# Altium footprint library SDTR-HX-20240126-V2.00.PcbLib: 53 footprints (part 3 of 4)
Each footprint in its own frame and in the unit in brackets; x right, y up, seen from the top. Pads: shape width x height; smd on the part's side, far side on the other; paste and mask are expansions set on the pad; w line width, h text height; cw(c..) or ccw(c..) is an arc to the next point about the centre after c.
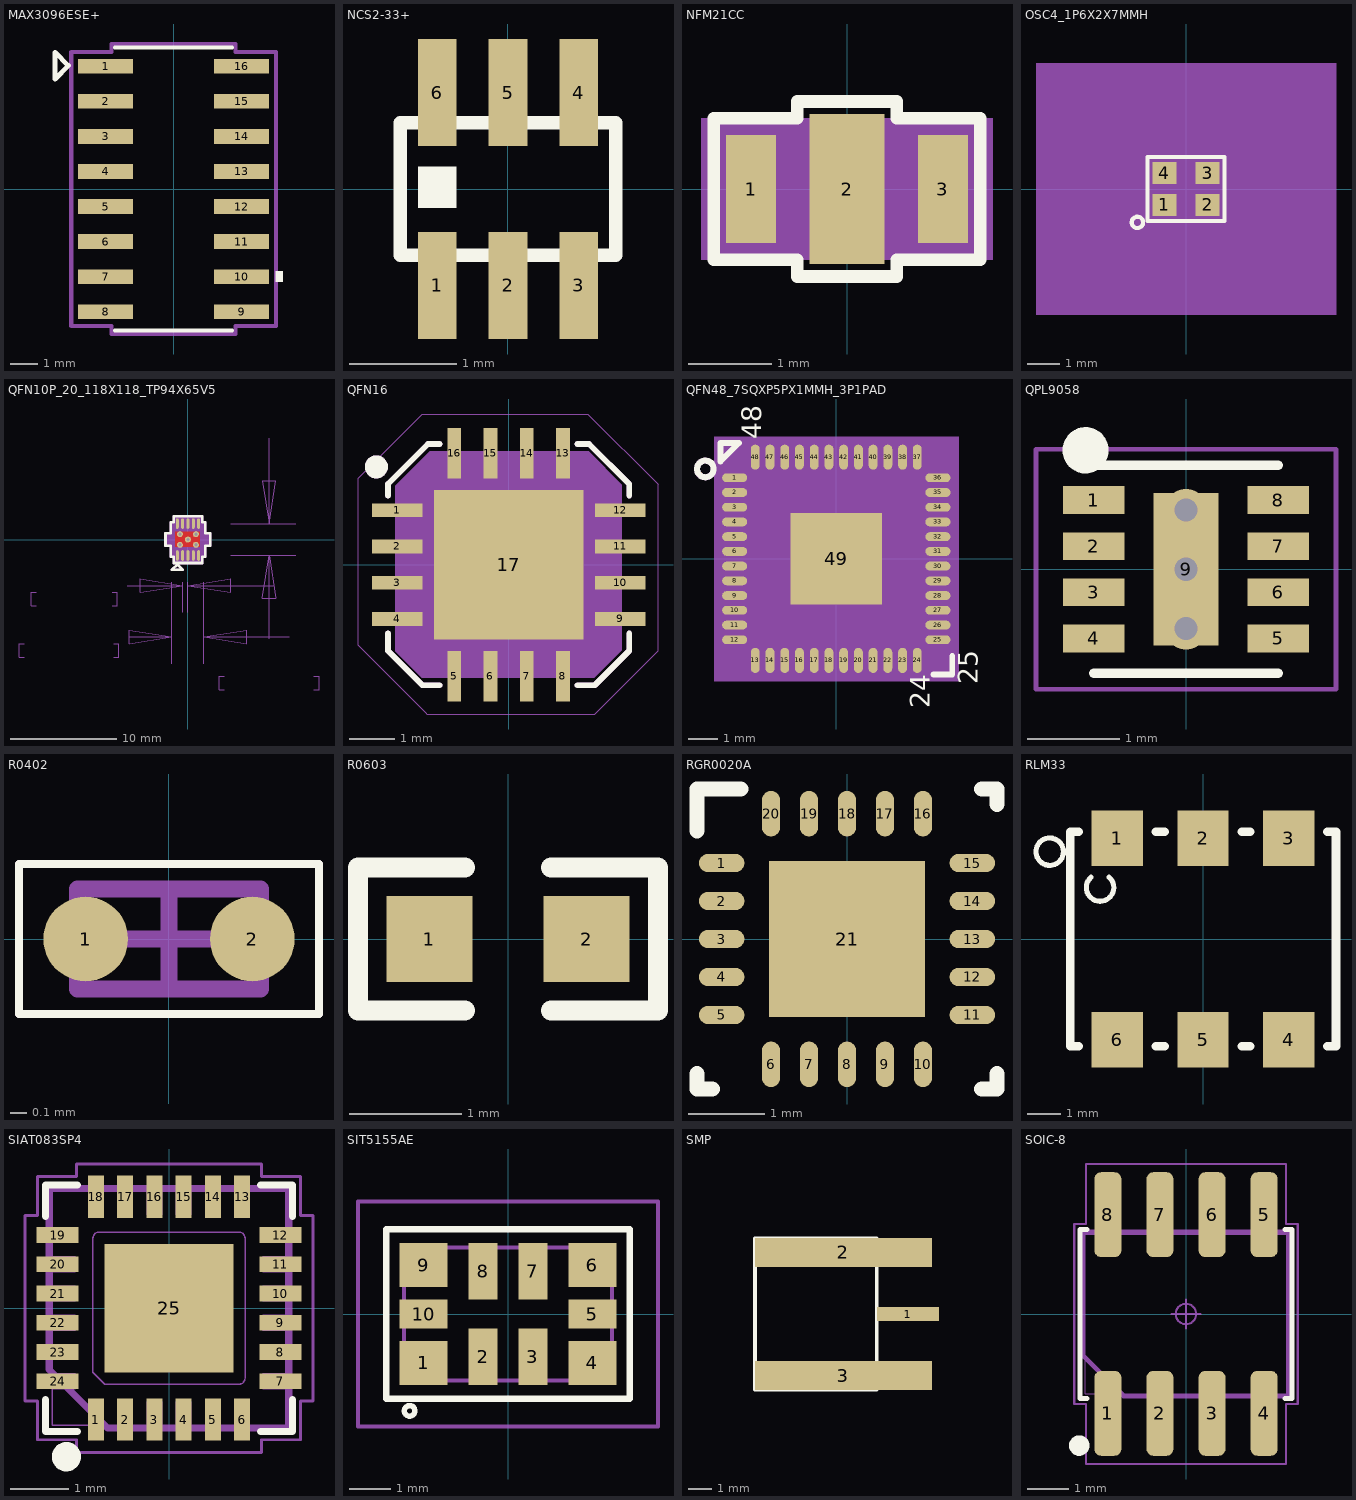
[diagram p2: the footprints below, top view; thin cyan lines are the x and y axes]

## MAX3096ESE+ [mil]
pads (16):
  rect 78x21 smd: 1(-97,175) 2(-97,125) 3(-97,75) 4(-97,25) 5(-97,-25) 6(-97,-75) 7(-97,-125) 8(-97,-175) 9(97,-175) 10(97,-125) 11(97,-75) 12(97,-25) 13(97,25) 14(97,75) 15(97,125) 16(97,175)
Top Overlay:
  region: 146,-117.5 156,-117.5 156,-132.5 146,-132.5
  lines w6: -83.5,-202 83.5,-202 ; -83.5,202 83.5,202
  lines w7: -169,157 -169,195 -150,176 -169,157
Mechanical 15:
  lines w6: -146,-195.5 -146,195.5 -88.5,195.5 -88.5,207 88.5,207 88.5,195.5 146,195.5 146,-195.5 88.5,-195.5 88.5,-207 -88.5,-207 -88.5,-195.5 -146,-195.5

## NCS2-33+ [mm]
pads (6):
  rect 0.36x1 smd: 1(-0.66,-0.9) 2(0,-0.9) 3(0.66,-0.9) 4(0.66,0.9) 5(0,0.9) 6(-0.66,0.9)
Top Overlay:
  rectangle: -0.84,-0.177 -0.48,0.21
  lines w0.127: -1.005,-0.62 1.005,-0.62 1.005,0.62 -1.005,0.62 -1.005,-0.62

## NFM21CC [mm] "NFM21CC"
pads (3):
  rect 0.6x1.3 smd: 1(-1.15,0) 3(1.15,0)
  rect 0.9x1.8 smd: 2(0,0)
Top Overlay:
  lines w0.15: -1.6,-0.85 -0.6,-0.85 -0.6,-1.05 0.6,-1.05 0.6,-0.85 1.6,-0.85 1.6,0.85 0.6,0.85 0.6,1.05 -0.6,1.05 -0.6,0.85 -1.6,0.85 -1.6,-0.85
Mechanical 14:
  text "2" at 0,-0.203 h0.25
  text "1" at -1.15,-0.203 h0.25
  text "3" at 1.15,-0.203 h0.25
Mechanical 16:
  region: -1.75,0.85 -1.75,-0.85 1.75,-0.85 1.75,0.85
Mechanical 20:
  text "NFM21PC225B0J3" at -0.5,1.53 h0.25
3D body: height 3.81, standoff 0, extent -1.75,-0.85 1.75,0.85

## OSC4_1P6X2X7MMH [mm] "OSC4_1P6X2X7MMH"
pads (4):
  rect 0.75x0.7 smd: 1(-0.675,-0.5) 2(0.675,-0.5) 3(0.675,0.5) 4(-0.675,0.5)
Top Overlay:
  circle w0.127: c-1.522,-1.046 r0.178
  lines w0.127: -1.2,-1 1.2,-1 1.2,1 -1.2,1 -1.2,-1
Top 3D Body:
  region: -1.3,-1.1 1.3,-1.1 1.3,1.1 -1.3,1.1
Mechanical 11:
  circle w0.127: c-1.7,-1.3 r0.359
  lines w0.127: -0.11,-1 0.11,-1 ; -0.11,1 0.11,1
Top Assembly:
  circle w0.127: c-1.7,-1.3 r0.316
  lines w0.127: -1,-0.8 -1,0.8 1,0.8 1,-0.8 -1,-0.8
  text "*" at -0.483,-1.947 h1.27
  text "*" at -0.483,-1.947 h1.27
  text "24MHZ" at -0.483,-1.947 h1.27
Mechanical50:
  text "2" at 0.675,-0.246 h0.64
  text "4" at -0.675,0.754 h0.64
  text "1" at -0.675,-0.246 h0.64
  text "3" at 0.675,0.754 h0.64
Mechanical56:
  dashed: -4.699,-3.937 4.699,-3.937 4.699,3.937 -4.699,3.937
3D body: height 3.81, standoff 0, extent -1.3,-1.1 1.3,1.1

## QFN10P_20_118X118_TP94X65V5 [mil] "QFN10P_20_118X118_TP94X65V5"
pads (16):
  oval 11x39 smd: 1(-39.37,-59.06) 2(-19.69,-59.06) 3(0,-59.06) 4(19.69,-59.06) 5(39.37,-59.06) 6(39.37,59.06) 7(19.69,59.06) 8(0,59.06) 9(-19.69,59.06) 10(-39.37,59.06)
  oct 1x1 smd: 11(0,0)
  round 22 hole 12: 12(-29.53,-19.69) 13(29.53,-19.69) 14(-29.53,19.69) 15(29.53,19.69) 16(0,0)
Top Layer:
  rectangle: -48.12,-28.27 45.41,29.21
Top Overlay:
  lines w10: -83,-23 -64.06,-23 -64.06,-64.06 -52.87,-64.06 -52.87,-86.56 52.87,-86.56 52.87,-64.06 64.06,-64.06 64.06,-23 83,-23 83,23 64.06,23 64.06,64.06 52.87,64.06 52.87,86.56 -52.87,86.56 -52.87,64.06 -64.06,64.06 -64.06,23 -83,23 -83,-23 ; -59.37,-111.56 -19.37,-111.56 -39.37,-91.56 -59.37,-111.56
Mechanical 5:
  lines w10: -83,-23 -83,23 -64.06,23 -64.06,64.06 -52.87,64.06 -52.87,86.56 52.87,86.56 52.87,64.06 64.06,64.06 64.06,23 83,23 83,-23 64.06,-23 64.06,-64.06 52.87,-64.06 52.87,-86.56 -52.87,-86.56 -52.87,-64.06 -64.06,-64.06 -64.06,-23 -83,-23 ; -59.37,-111.56 -39.37,-91.56 -19.37,-111.56 -59.37,-111.56
Mechanical 13:
  lines w1: -605.5,-435 -624.5,-435 -624.5,-385 -605.5,-385 ; -560,-245 -579,-245 -579,-195 -560,-195 ; -280,-245 -261,-245 -261,-195 -280,-195 ; -274.5,-435 -255.5,-435 -255.5,-385 -274.5,-385 ; -223.5,-170 -19.69,-170 ; -218,-360 -59.06,-360 ; -59.06,-458.43 -59.06,-157.48 ; -19.69,-268.43 -19.69,-157.48 ; 0,-268.43 0,-157.48 ; 59.06,-458.43 59.06,-157.48 ; 134.5,-555 115.5,-555 115.5,-505 134.5,-505 ; 157.48,-59.06 398.43,-59.06 ; 157.48,59.06 398.43,59.06 ; 300,-367.5 300,-59.06 ; 300,374.02 300,59.06 ; 314.96,-170 0,-170 ; 374.02,-360 59.06,-360 ; 465.5,-555 484.5,-555 484.5,-505 465.5,-505 ; -59.06,-360 -216.54,-335.39 -216.54,-384.61 -59.06,-360 ; -19.69,-170 -177.17,-145.39 -177.17,-194.61 -19.69,-170 ; 0,-170 157.48,-194.61 157.48,-145.39 0,-170 ; 59.06,-360 216.54,-384.61 216.54,-335.39 59.06,-360 ; 300,-59.06 275.39,-216.54 324.61,-216.54 300,-59.06 ; 300,59.06 324.61,216.54 275.39,216.54 300,59.06
  text "0.5" at -490,-145 h36
  text "19.69" at -541,-245 h36
  text "3" at -459,-335 h36
  text "118.11" at -586.5,-435 h36
  text "3" at 281,-455 h36
  text "118.11" at 153.5,-555 h36
Mechanical 16:
  region: -59.06,-59.06 59.06,-59.06 59.06,59.06 -59.06,59.06
  pour cut-out: 52.87,86.56 52.87,64.06 64.06,64.06 64.06,23 83,23 83,-23 64.06,-23 64.06,-64.06 52.87,-64.06 52.87,-86.56 -52.87,-86.56 -52.87,-64.06 -64.06,-64.06 -64.06,-23 -83,-23 -83,23 -64.06,23 -64.06,64.06 -52.87,64.06 -52.87,86.56
  lines w1: -59.06,-59.06 59.06,-59.06 59.06,59.06 -59.06,59.06 -59.06,-59.06
Mechanical 17:
  text ".Designator" at 6,1.67 h5
3D body: height 150, standoff 0, extent -59.06,-59.06 59.06,59.06

## QFN16 [mil] "QFN16"
pads (17):
  rect 44x12 smd: 1(-97,47.24) 2(-97,15.75) 3(-97,-15.75) 4(-97,-47.24) 9(97,-47.24) 10(97,-15.75) 11(97,15.75) 12(97,47.24)
  rect 12x44 smd: 5(-47.24,-97) 6(-15.75,-97) 7(15.75,-97) 8(47.24,-97) 13(47.24,97) 14(15.75,97) 15(-15.75,97) 16(-47.24,97)
  rect 130x130 smd: 17(0,0)
Top Overlay:
  circle w10: c-115,85 r5
  lines w5: -105,-60 -105,-75 -75,-105 -60,-105 ; -105,60 -105,70 -70,105 -60,105 ; 60,-105 75,-105 105,-75 105,-60 ; 60,105 70,105 105,70 105,60
Mechanical 5:
  circle w10: c-115,85 r5
  lines w5: -105,-60 -105,-75 -75,-105 -60,-105 ; -105,60 -105,70 -70,105 -60,105 ; 60,-105 75,-105 105,-75 105,-60 ; 60,105 70,105 105,70 105,60
Mechanical 16:
  region: 98.43,-74.58 75,-98 74.58,-98.43 -75.58,-98.43 -76,-98 -98.43,-75.58 -98.43,68.58 -98,69 -68.58,98.43 69.58,98.43 70,98 98.43,69.58
  lines w1: -131,-70 -71.49,-129.48 -71,-130 75,-130 130,-75 130,70 69,131 -65,131 -75,131 -131,75 -131,-70
Mechanical 17:
  text ".Designator" at 6,-1.67 h5
  text "MAX8556ETE+" at 13,-100 h20
3D body: height 150, standoff 0, extent -98.43,-98.43 98.43,98.43

## QFN48_7SQXP5PX1MMH_3P1PAD [mm] "QFN48_7SQXP5PX1MMH_3P1PAD"
pads (49):
  oval 0.85x0.3 smd: 1(-3.45,2.75) 2(-3.45,2.25) 3(-3.45,1.75) 4(-3.45,1.25) 5(-3.45,0.75) 6(-3.45,0.25) 7(-3.45,-0.25) 8(-3.45,-0.75) 9(-3.45,-1.25) 10(-3.45,-1.75) 11(-3.45,-2.25) 12(-3.45,-2.75) 25(3.45,-2.75) 26(3.45,-2.25) 27(3.45,-1.75) 28(3.45,-1.25) 29(3.45,-0.75) 30(3.45,-0.25) 31(3.45,0.25) 32(3.45,0.75) 33(3.45,1.25) 34(3.45,1.75) 35(3.45,2.25) 36(3.45,2.75)
  oval 0.3x0.85 smd: 13(-2.75,-3.45) 14(-2.25,-3.45) 15(-1.75,-3.45) 16(-1.25,-3.45) 17(-0.75,-3.45) 18(-0.25,-3.45) 19(0.25,-3.45) 20(0.75,-3.45) 21(1.25,-3.45) 22(1.75,-3.45) 23(2.25,-3.45) 24(2.75,-3.45) 37(2.75,3.45) 38(2.25,3.45) 39(1.75,3.45) 40(1.25,3.45) 41(0.75,3.45) 42(0.25,3.45) 43(-0.25,3.45) 44(-0.75,3.45) 45(-1.25,3.45) 46(-1.75,3.45) 47(-2.25,3.45) 48(-2.75,3.45)
  rect 3.1x3.1 smd: 49(0,0)
Top Overlay:
  circle w0.203: c-4.445,3.048 r0.283
  lines w0.203: 3.302,-3.937 3.937,-3.937 3.937,-3.302 ; -3.937,3.302 -3.302,3.937 -3.937,3.937 -3.937,3.302
  text "25" at 4.795,-4.264 h0.66
  text "24" at 3.175,-5.08 h0.66
  text "48" at -2.54,4.064 h0.66
Top Paste:
  dashed: -1.4,-0.129 -0.179,-0.129 -0.179,-1.4 -1.4,-1.4
  dashed: 1.4,-0.129 0.126,-0.129 0.126,-1.4 1.4,-1.4
  dashed: -1.4,0.176 -0.179,0.176 -0.179,1.4 -1.4,1.4
  dashed: 0.126,0.176 1.4,0.176 1.4,1.4 0.126,1.4
Top 3D Body:
  region: 4.15,-4.15 -4.15,-4.15 -4.15,4.15 4.15,4.15
Mechanical 11:
  lines w0.203: 3.302,-3.937 3.937,-3.937 3.937,-3.302 ; -4.728,3.048 cw(c-4.445,3.048) -4.445,3.331 cw(c-4.445,3.048) -4.162,3.048 cw(c-4.445,3.048) -4.445,2.765 cw(c-4.445,3.048) -4.728,3.048 ; -3.937,3.302 -3.937,3.937 -3.302,3.937 -3.937,3.302
Top Assembly:
  circle w0.203: c-2.794,2.667 r0.283
  lines w0.203: -3.556,-3.556 -3.556,3.556 3.556,3.556 3.556,-3.556 -3.556,-3.556
  text "*" at -0.483,-0.423 h1.27
  text "*" at -0.483,-0.423 h1.27
  text "88E1318_1.8V IO" at -0.483,-0.423 h1.27
Mechanical50:
  text "3" at -3.65,1.547 h0.39
  text "8" at -3.65,-0.954 h0.39
  text "16" at -0.931,-4.307 h0.39
  text "21" at 1.569,-4.307 h0.39
  text "49" at 0,-0.315 h0.39
  text "36" at 3.65,2.416 h0.39
  text "35" at 3.65,1.916 h0.39
  text "12" at -3.65,-3.111 h0.39
  text "11" at -3.65,-2.611 h0.39
  text "40" at 0.869,3.047 h0.39
  text "27" at 3.65,-2.084 h0.39
  text "26" at 3.65,-2.584 h0.39
  text "31" at 3.65,-0.084 h0.39
  text "30" at 3.65,-0.584 h0.39
  text "15" at -1.431,-4.307 h0.39
  text "22" at 2.069,-4.307 h0.39
  text "33" at 3.65,0.916 h0.39
  text "32" at 3.65,0.416 h0.39
  text "6" at -3.65,0.046 h0.39
  text "34" at 3.65,1.416 h0.39
  text "48" at -3.131,3.047 h0.39
  text "1" at -3.65,2.547 h0.39
  text "45" at -1.631,3.047 h0.39
  text "44" at -1.131,3.047 h0.39
  text "47" at -2.631,3.047 h0.39
  text "42" at -0.131,3.047 h0.39
  text "39" at 1.369,3.047 h0.39
  text "41" at 0.369,3.047 h0.39
  text "2" at -3.65,2.046 h0.39
  text "38" at 1.869,3.047 h0.39
  text "5" at -3.65,0.547 h0.39
  text "4" at -3.65,1.046 h0.39
  text "14" at -1.931,-4.307 h0.39
  text "23" at 2.569,-4.307 h0.39
  text "9" at -3.65,-1.453 h0.39
  text "17" at -0.431,-4.307 h0.39
  text "10" at -3.65,-2.111 h0.39
  text "18" at 0.069,-4.307 h0.39
  text "24" at 3.069,-4.307 h0.39
  text "19" at 0.569,-4.307 h0.39
  text "20" at 1.069,-4.307 h0.39
  text "13" at -2.431,-4.307 h0.39
  text "25" at 3.65,-3.084 h0.39
  text "46" at -2.131,3.047 h0.39
  text "7" at -3.65,-0.453 h0.39
  text "43" at -0.631,3.047 h0.39
  text "37" at 2.369,3.047 h0.39
  text "28" at 3.65,-1.584 h0.39
  text "29" at 3.65,-1.084 h0.39
Mechanical56:
  dashed: -4.15,-4.15 4.15,-4.15 4.15,4.15 -4.15,4.15
3D body: height 3.81, standoff 0, extent -4.15,-4.15 4.15,4.15

## QPL9058 [mm]
pads (9):
  rect 0.67x0.3 smd: 1(-1,0.75) 2(-1,0.25) 3(-1,-0.25) 4(-1,-0.75) 5(1,-0.75) 6(1,-0.25) 7(1,0.25) 8(1,0.75)
  rect 0.7x1.65 smd: 9(0,0)
via 0,0.64 diameter 0.457 hole 0.25
via 0,0 diameter 0.457 hole 0.25
via 0,-0.64 diameter 0.457 hole 0.25
Top Overlay:
  circle w0.25: c-1.088,1.289 r0.125
  lines w0.1: -1,-1.127 1,-1.127 ; -1,1.127 1,1.127
Mechanical 15:
  lines w0.05: -1.625,-1.3 -1.625,1.3 1.625,1.3 1.625,-1.3 -1.625,-1.3
3D body "QPL9058TR7.stp": height 0.9, standoff 0, extent -1.05,-1 1.05,1

## R0402 [mil]
height 11.81
pads (2):
  round 20 smd: 1(-19.68,0) 2(19.68,0)
Top Overlay:
  lines w1.97: -35.43,-17.72 -35.43,17.72 35.43,17.72 35.43,-17.72 -35.43,-17.72
Mechanical 13:
  lines w3.94: -21.65,-11.81 21.65,-11.81 21.65,11.81 -21.65,11.81 -21.65,-11.81
Mechanical 15:
  lines w1.97: -35.43,-17.72 -35.43,17.72 35.43,17.72 35.43,-17.72 -35.43,-17.72
  lines w3.94: -9.84,0 9.84,0 ; 0,-9.84 0,9.84
3D body "R0402.STEP": height 13.78, standoff 0, extent -19.68,-9.84 19.68,9.84

## R0603 [mil]
pads (2):
  rect 30x30 smd: 1(-27.5,0) 2(27.5,0)
Top Overlay:
  lines w7: -15,-25 -52.5,-25 -52.5,25 -15,25 ; 15,-25 52.5,-25 52.5,25 15,25

## RGR0020A [mm]
pads (21):
  oval 0.6x0.24 smd: 1(-1.65,1) 2(-1.65,0.5) 3(-1.65,0) 4(-1.65,-0.5) 5(-1.65,-1) 11(1.65,-1) 12(1.65,-0.5) 13(1.65,0) 14(1.65,0.5) 15(1.65,1)
  oval 0.24x0.6 smd: 6(-1,-1.65) 7(-0.5,-1.65) 8(0,-1.65) 9(0.5,-1.65) 10(1,-1.65) 16(1,1.65) 17(0.5,1.65) 18(0,1.65) 19(-0.5,1.65) 20(-1,1.65)
  rect 2.05x2.05 smd: 21(0,0)
Top Overlay:
  lines w0.2: -1.975,-1.775 -1.975,-1.975 -1.775,-1.975 ; -1.975,1.425 -1.975,1.975 -1.4,1.975 ; 1.775,-1.975 1.975,-1.975 1.975,-1.775 ; 1.775,1.975 1.975,1.975 1.975,1.775

## RLM33 [mm]
pads (6):
  rect 1.52x1.65 smd: 1(-2.54,2.985) 2(0,2.985) 3(2.54,2.985) 4(2.54,-2.985) 5(0,-2.985) 6(-2.54,-2.985)
Top Overlay:
  circle w0.152: c-4.539,2.585 r0.406
  lines w0.152: -3.316,1.83 ccw(c-3.048,1.524) -2.78,1.83
  lines w0.254: -3.681,-3.175 -3.935,-3.175 -3.935,3.175 -3.681,3.175 ; -1.399,-3.175 -1.141,-3.175 ; -1.399,3.175 -1.141,3.175 ; 1.141,-3.175 1.399,-3.175 ; 1.141,3.175 1.399,3.175 ; 3.681,-3.175 3.935,-3.175 3.935,3.175 3.681,3.175
3D body: height 4.06, standoff 0, extent -3.935,-3.175 3.935,3.175

## SIAT083SP4 [mm] "Quad Flat No-Lead (QFN) with tab, 0.50 mm pitch; 25 pin, square, 6 pin X 6 pin, 4.00 mm L X 4.00 mm W X 0.50 mm H body"
height 0.5
pads (25):
  rect 0.27x0.72 smd: 1(-1.25,-1.905) 2(-0.75,-1.905) 3(-0.25,-1.905) 4(0.25,-1.905) 5(0.75,-1.905) 6(1.25,-1.905) 13(1.25,1.905) 14(0.75,1.905) 15(0.25,1.905) 16(-0.25,1.905) 17(-0.75,1.905) 18(-1.25,1.905)
  rect 0.72x0.27 smd: 7(1.905,-1.25) 8(1.905,-0.75) 9(1.905,-0.25) 10(1.905,0.25) 11(1.905,0.75) 12(1.905,1.25) 19(-1.905,1.25) 20(-1.905,0.75) 21(-1.905,0.25) 22(-1.905,-0.25) 23(-1.905,-0.75) 24(-1.905,-1.25)
  rect 2.2x2.2 smd paste-2.2 mask-2.2: 25(0,0)
Top Overlay:
  circle w0.25: c-1.755,-2.54 r0.125
  lines w0.12: -2.11,-1.565 -2.11,-2.11 -1.565,-2.11 ; -2.11,1.565 -2.11,2.11 -1.565,2.11 ; 1.565,-2.11 2.11,-2.11 2.11,-1.565 ; 1.565,2.11 2.11,2.11 2.11,1.565
Top Paste:
  region: -0.147,0.147 -1.153,0.147 -1.153,1.153 -0.147,1.153
  region: -0.147,-1.125 -1.125,-1.125 -1.125,-0.147 -0.147,-0.147
  region: 1.153,0.147 0.147,0.147 0.147,1.153 1.153,1.153
  region: 1.153,-1.153 0.147,-1.153 0.147,-0.147 1.153,-0.147
Top Solder:
  region: 1.3,0 1.3,-1.2 1.299,-1.216 1.295,-1.231 1.289,-1.245 1.281,-1.259 1.271,-1.271 1.259,-1.281 1.245,-1.289 1.231,-1.295 1.216,-1.299 -1.1,-1.3 -1.3,-1.1 -1.3,1.2 -1.299,1.216 -1.295,1.231 -1.289,1.245 -1.281,1.259 -1.271,1.271 -1.259,1.281 -1.245,1.289 -1.231,1.295 -1.216,1.299 1.2,1.3 1.216,1.299 1.231,1.295 1.245,1.289 1.259,1.281 1.271,1.271 1.281,1.259 1.289,1.245 1.295,1.231 1.299,1.216 1.3,1.2
Mechanical 11:
  lines w0.12: -2.05,-1.05 -2.05,2.05 2.05,2.05 2.05,-2.05 -1.05,-2.05 -2.05,-1.05
Mechanical 12:
  lines w0.025: -2,-2 2,-2 2,2 -2,2 -2,-2 ; -2,-1.375 -2,-1.125 -1.6,-1.125 -1.6,-1.375 -2,-1.375 ; -2,-0.875 -2,-0.625 -1.6,-0.625 -1.6,-0.875 -2,-0.875 ; -2,-0.375 -2,-0.125 -1.6,-0.125 -1.6,-0.375 -2,-0.375 ; -2,0.125 -2,0.375 -1.6,0.375 -1.6,0.125 -2,0.125 ; -2,0.625 -2,0.875 -1.6,0.875 -1.6,0.625 -2,0.625 ; -2,1.125 -2,1.375 -1.6,1.375 -1.6,1.125 -2,1.125 ; -1.375,-2 -1.375,-1.6 -1.125,-1.6 -1.125,-2 -1.375,-2 ; -1.375,1.6 -1.375,2 -1.125,2 -1.125,1.6 -1.375,1.6 ; -1.3,-1.1 -1.1,-1.3 1.2,-1.3 ccw(c1.2,-1.2) 1.3,-1.2 1.3,1.2 ccw(c1.2,1.2) 1.2,1.3 -1.2,1.3 ccw(c-1.2,1.2) -1.3,1.2 -1.3,-1.1 ; -0.875,-2 -0.875,-1.6 -0.625,-1.6 -0.625,-2 -0.875,-2 ; -0.875,1.6 -0.875,2 -0.625,2 -0.625,1.6 -0.875,1.6 ; -0.375,-2 -0.375,-1.6 -0.125,-1.6 -0.125,-2 -0.375,-2 ; -0.375,1.6 -0.375,2 -0.125,2 -0.125,1.6 -0.375,1.6 ; 0.125,-2 0.125,-1.6 0.375,-1.6 0.375,-2 0.125,-2 ; 0.125,1.6 0.125,2 0.375,2 0.375,1.6 0.125,1.6 ; 0.625,-2 0.625,-1.6 0.875,-1.6 0.875,-2 0.625,-2 ; 0.625,1.6 0.625,2 0.875,2 0.875,1.6 0.625,1.6 ; 1.125,-2 1.125,-1.6 1.375,-1.6 1.375,-2 1.125,-2 ; 1.125,1.6 1.125,2 1.375,2 1.375,1.6 1.125,1.6 ; 1.6,-1.375 2,-1.375 2,-1.125 1.6,-1.125 1.6,-1.375 ; 1.6,-0.875 2,-0.875 2,-0.625 1.6,-0.625 1.6,-0.875 ; 1.6,-0.375 2,-0.375 2,-0.125 1.6,-0.125 1.6,-0.375 ; 1.6,0.125 2,0.125 2,0.375 1.6,0.375 1.6,0.125 ; 1.6,0.625 2,0.625 2,0.875 1.6,0.875 1.6,0.625 ; 1.6,1.125 2,1.125 2,1.375 1.6,1.375 1.6,1.125
Mechanical 15:
  circle w0.05: c0,0 r0.25
  lines w0.05: -0.35,0 0.35,0 ; 0,-0.35 0,0.35 ; -2.465,-1.585 -2.25,-1.585 -2.25,-2.25 -1.585,-2.25 -1.585,-2.465 1.585,-2.465 1.585,-2.25 2.25,-2.25 2.25,-1.585 2.465,-1.585 2.465,1.585 2.25,1.585 2.25,2.25 1.585,2.25 1.585,2.465 -1.585,2.465 -1.585,2.25 -2.25,2.25 -2.25,1.585 -2.465,1.585 -2.465,-1.585
3D body "QFN25P50_400X400X50L40X25T260-LQ.STEP": height 0.5, standoff 0, extent -2,-2 2,2

## SIT5155AE [mm]
pads (10):
  rect 1.15x1.05 smd: 1(-2.025,-1.175) 4(2.025,-1.175) 6(2.025,1.175) 9(-2.025,1.175)
  rect 0.7x1.35 smd: 2(-0.6,-1.025) 3(0.6,-1.025) 7(0.6,1.025) 8(-0.6,1.025)
  rect 1.15x0.7 smd: 5(2.025,0) 10(-2.025,0)
Top Overlay:
  circle w0.127: c-2.361,-2.325 r0.127
  lines w0.152: -2.921,-2.032 -2.921,2.032 2.921,2.032 2.921,-2.032 -2.921,-2.032
Mechanical 13:
  lines w0.1: -2.5,-1.6 2.5,-1.6 2.5,1.6 -2.5,1.6 -2.5,-1.6
Mechanical 15:
  lines w0.1: -3.6,-2.7 3.6,-2.7 3.6,2.7 -3.6,2.7 -3.6,-2.7
3D body "SiT5155AE-FK-33N0-25.000000.stp": height 1.1, standoff 0, extent -2.53,-1.63 2.53,1.63

## SMP [mm]
pads (3):
  rect 2.6x0.6 smd: 1(21.877,120.107)
  rect 7.4x1.2 smd: 2(19.177,122.682) 3(19.177,117.532)
Top Overlay:
  lines w0.152: 15.477,116.932 15.477,123.282 20.577,123.282 20.577,116.932 15.477,116.932
Drill Drawing:
  text "CUT_OUT" at 16.637,119.927 h0.76

## SOIC-8 [mm] "Small Outline IC (SOIC), 1.27 mm pitch; 8 pin, 4.925 mm L X 3.90 mm W X 1.75 mm H body"
height 1.75
pads (8):
  rrect50% 0.659x2.072 smd: 1(-1.905,-2.421) 2(-0.635,-2.421) 3(0.635,-2.421) 4(1.905,-2.421) 5(1.905,2.421) 6(0.635,2.421) 7(-0.635,2.421) 8(-1.905,2.421)
Top Overlay:
  circle w0.25: c-2.604,-3.207 r0.125
  lines w0.12: -2.414,-2.055 -2.585,-2.055 -2.585,2.055 -2.414,2.055 ; 2.414,-2.055 2.585,-2.055 2.585,2.055 2.414,2.055
Mechanical 11:
  lines w0.12: -2.525,-0.995 -1.525,-1.995 2.525,-1.995 2.525,1.995 -2.525,1.995 -2.525,-0.995
Mechanical 12:
  lines w0.025: -2.462,-1.95 -2.462,1.95 2.462,1.95 2.462,-1.95 -2.462,-1.95 ; -2.11,-2.998 -1.7,-2.998 -1.7,-2.162 -2.11,-2.162 -2.11,-2.998 ; -2.11,2.162 -1.7,2.162 -1.7,2.998 -2.11,2.998 -2.11,2.162 ; -0.84,-2.998 -0.43,-2.998 -0.43,-2.162 -0.84,-2.162 -0.84,-2.998 ; -0.84,2.162 -0.43,2.162 -0.43,2.998 -0.84,2.998 -0.84,2.162 ; 0.43,-2.998 0.84,-2.998 0.84,-2.162 0.43,-2.162 0.43,-2.998 ; 0.43,2.162 0.84,2.162 0.84,2.998 0.43,2.998 0.43,2.162 ; 1.7,-2.998 2.11,-2.998 2.11,-2.162 1.7,-2.162 1.7,-2.998 ; 1.7,2.162 2.11,2.162 2.11,2.998 1.7,2.998 1.7,2.162
Mechanical 15:
  circle w0.05: c0,0 r0.25
  lines w0.05: -0.35,0 0.35,0 ; 0,-0.35 0,0.35 ; -2.725,-2.195 -2.725,2.195 -2.434,2.195 -2.434,3.657 2.434,3.657 2.434,2.195 2.725,2.195 2.725,-2.195 2.434,-2.195 2.434,-3.657 -2.434,-3.657 -2.434,-2.195 -2.725,-2.195
3D body "SOIC8P127_492X599X175L83X41-LQ.STEP": height 1.75, standoff 0, extent -2.462,-1.95 2.462,1.95